# Altium footprint library CAP_50SVT68M.PcbLib: 1 footprints
Each footprint in its own frame and in the unit in brackets; x right, y up, seen from the top. Pads: shape width x height; smd on the part's side, far side on the other; paste and mask are expansions set on the pad; w line width, h text height; cw(c..) or ccw(c..) is an arc to the next point about the centre after c.
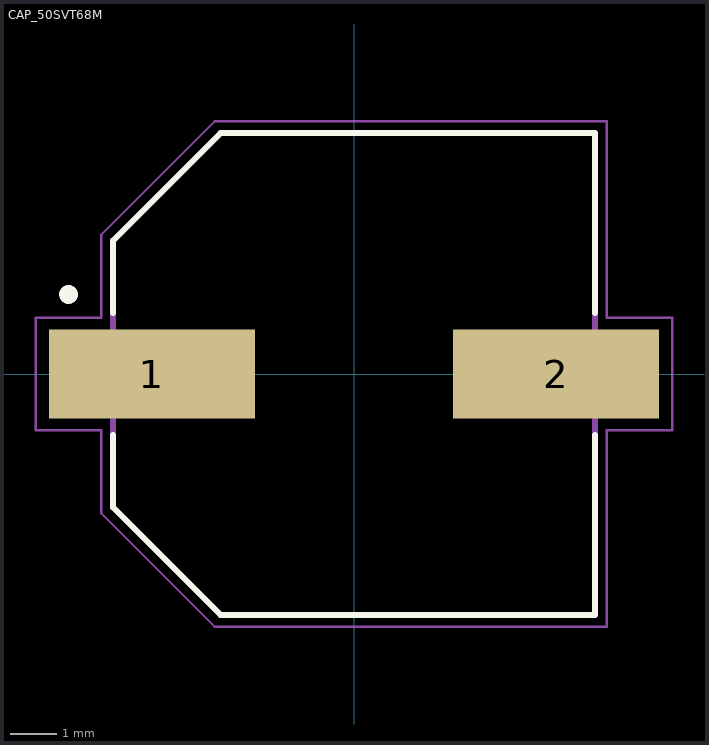
[diagram p0: the footprint, top view; thin cyan lines are the x and y axes]

## CAP_50SVT68M [mm]
pads (2):
  rect 4.4x1.9 smd: 1(-4.318,0) 2(4.318,0)
Top Overlay:
  circle w0.2: c-6.1,1.7 r0.1
  lines w0.127: -5.15,-1.3 -5.15,-2.85 -2.85,-5.15 5.15,-5.15 5.15,-1.3 ; -5.15,1.3 -5.15,2.85 -2.85,5.15 5.15,5.15 5.15,1.3
Mechanical 13:
  circle w0.2: c-6.1,1.7 r0.1
  lines w0.127: -5.15,-2.85 -5.15,2.85 -2.85,5.15 5.15,5.15 5.15,-5.15 -2.85,-5.15 -5.15,-2.85
Mechanical 15:
  lines w0.05: -6.8,-1.2 -6.8,1.2 -5.4,1.2 -5.4,2.975 -2.975,5.4 5.4,5.4 5.4,1.2 6.8,1.2 6.8,-1.2 5.4,-1.2 5.4,-5.4 -2.975,-5.4 -5.4,-2.975 -5.4,-1.2 -6.8,-1.2
3D body "50SVT68M.STEP": height 12.57, standoff -0.03, extent -5.373,-5.023 5.627,5.277